# Altium schematic symbol library RES_VAR_1.SchLib: 1 symbol
Pins are listed as number, name and electrical type; pins without a type are passive.

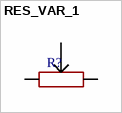
[diagram p0: symbol RES_VAR_1]

## RES_VAR_1
designator R?
footprint RES_VAR_1
footprint RES_VAR_RM-065
pins: 1, 2, 3